# Altium schematic symbol library Schematic_IC.SchLib: 18 symbols
Pins are listed as number, name and electrical type; pins without a type are passive.

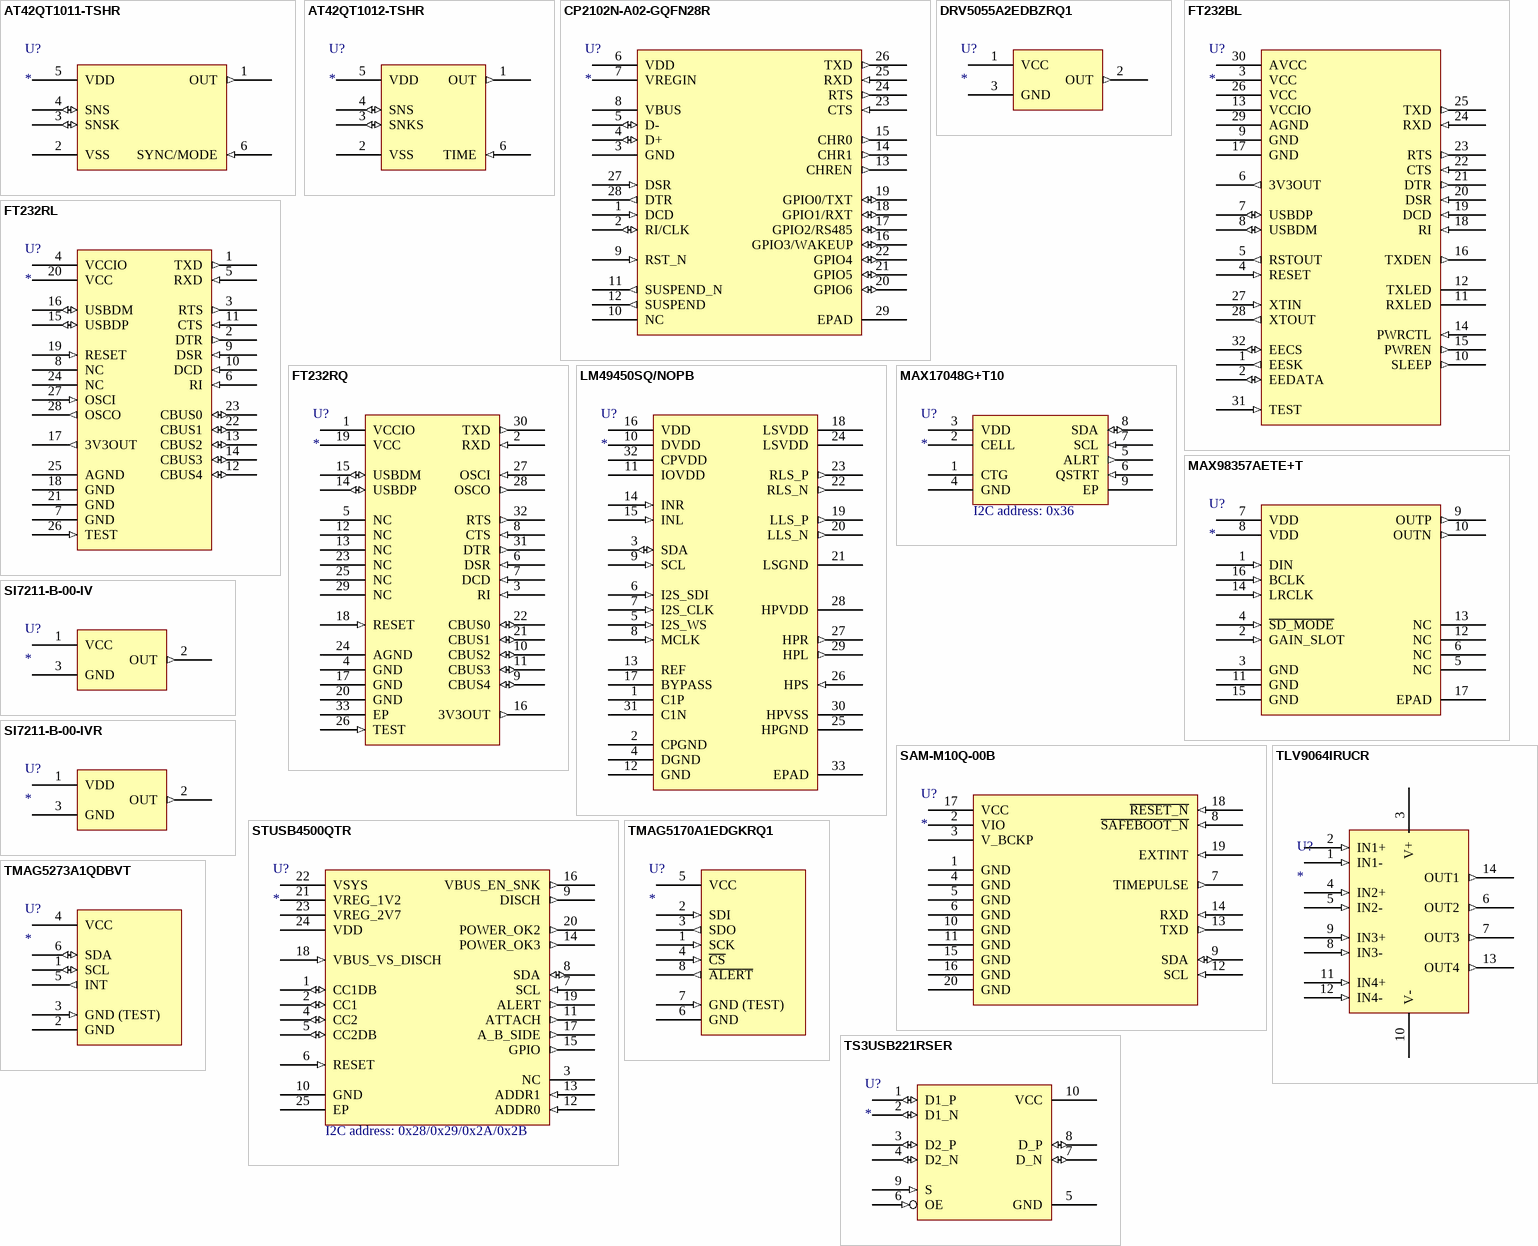
[diagram p0: symbols AT42QT1011-TSHR to TS3USB221RSER]

## AT42QT1011-TSHR
designator U?
Touch Sensor IC 6-Pin SOT-23, HOLD; Manufacturer: Microchip / Atmel; Manufacturer Part Number: AT42QT1011-TSHR; Min Supply Voltage: 1.8V; Max Supply Voltage: 5.5V; Load Capacitance: 50pF; Nominal Supply Current: 729uA; Number of Inputs: 1; Resolution: 14b; Operating Supply Current: 378.5uA; Touchscreen: Capacitive; Supplier 1: Digi-Key; RoHS: Yes; Category: Uncategorized; Pricing 1: 4500=0.48000 (USD); Mount: Surface Mount; Case/Package: SOT-23-6; Number of Pins: 6; Min Operating Temperature: -40°C; Max Operating Temperature: 85°C; Package Quantity: 4500; Packaging: Tape and Reel; Number of Channels: 1; Length: 3mm; Width: 1.75mm; Height: 1.3mm; REACH SVHC: No SVHC; Lead Free: Lead Free; ComponentLink1URL: https://datasheet.ciiva.com/14094/at42qt1011-eng-tds-14094872.pdf?src-supplier=Distrelec; ComponentLink1Description: https://datasheet.ciiva.com/14094/at42qt1011-eng-tds-14094872.pdf?src-supplier=Distrelec; ComponentLink2URL: https://datasheet.ciiva.com/1165/731627-1165685.pdf?src-supplier=Element14; ComponentLink2Description: https://datasheet.ciiva.com/1165/731627-1165685.pdf?src-supplier=Element14; ComponentLink3URL: https://datasheet.ciiva.com/1403/doc8287-1403456.pdf?src-supplier=Digi-Key; ComponentLink3Description: https://datasheet.ciiva.com/1403/doc8287-1403456.pdf?src-supplier=Digi-Key; ComponentLink4URL: https://datasheet.ciiva.com/1403/doc8287-1403458.pdf?src-supplier=Digi-Key; ComponentLink4Description: https://datasheet.ciiva.com/1403/doc8287-1403458.pdf?src-supplier=Digi-Key; ComponentLink5URL: https://datasheet.ciiva.com/15222/getdatasheetpartid-463081-15222284.pdf?src-supplier=Verical; ComponentLink5Description: https://datasheet.ciiva.com/15222/getdatasheetpartid-463081-15222284.pdf?src-supplier=Verical; ComponentLink6URL: https://datasheet.ciiva.com/1403/doc8287-1403457.pdf?src-supplier=Digi-Key; ComponentLink6Description: https://datasheet.ciiva.com/1403/doc8287-1403457.pdf?src-supplier=Digi-Key
footprint SOT95P280X145-6N (SOT23, 6-Leads, Body 2.90x2.80mm, Pitch 0.95mm, IPC Medium Density)
pins: 1 OUT (out), 2 VSS (power), 3 SNSK (io), 4 SNS (io), 5 VDD (power), 6 SYNC/MODE (in)

## AT42QT1012-TSHR
designator U?
Touch Sensor IC 6-Pin SOT-23, TOGGLE; Manufacturer: Microchip / Atmel; Manufacturer Part Number: AT42QT1012-TSHR; Interface: Serial; Resolution: 14b; Operating Supply Current: 59uA; Nominal Supply Current: 124uA; Min Supply Voltage: 1.8V; Max Supply Voltage: 5.5V; Load Capacitance: 20pF; Number of Inputs: 1; Touchscreen: Capacitive; Supplier 1: Digi-Key; RoHS: Yes; Category: Uncategorized; Stock 1: 7879; Pricing 1: 1=0.58000, 25=0.53000, 100=0.48000 (USD); Mount: Surface Mount; Case/Package: SOT-23-6; Number of Pins: 6; Contact Plating: Gold; Min Operating Temperature: -40°C; Max Operating Temperature: 85°C; Package Quantity: 4500; Packaging: Tape and Reel; Number of Channels: 1; Sensing Method: Capacitive; Length: 3mm; Width: 1.75mm; Height: 1.3mm; REACH SVHC: No SVHC; Lead Free: Lead Free; ComponentLink1URL: https://datasheet.ciiva.com/1165/1738894-1165686.pdf?src-supplier=Element14; ComponentLink1Description: https://datasheet.ciiva.com/1165/1738894-1165686.pdf?src-supplier=Element14; ComponentLink2URL: https://datasheet.ciiva.com/15098/getdatasheetpartid-503663-15098989.pdf?src-supplier=Verical; ComponentLink2Description: https://datasheet.ciiva.com/15098/getdatasheetpartid-503663-15098989.pdf?src-supplier=Verical; ComponentLink3URL: https://datasheet.ciiva.com/1403/doc8287-1403462.pdf?src-supplier=Digi-Key; ComponentLink3Description: https://datasheet.ciiva.com/1403/doc8287-1403462.pdf?src-supplier=Digi-Key; ComponentLink4URL: https://datasheet.ciiva.com/1403/doc8287-1403463.pdf?src-supplier=Digi-Key; ComponentLink4Description: https://datasheet.ciiva.com/1403/doc8287-1403463.pdf?src-supplier=Digi-Key; ComponentLink5URL: https://datasheet.ciiva.com/1403/doc8287-1403464.pdf?src-supplier=Digi-Key; ComponentLink5Description: https://datasheet.ciiva.com/1403/doc8287-1403464.pdf?src-supplier=Digi-Key
footprint SOT95P280X145-6N (SOT23, 6-Leads, Body 2.90x2.80mm, Pitch 0.95mm, IPC Medium Density)
pins: 1 OUT (out), 2 VSS (power), 3 SNKS (io), 4 SNS (io), 5 VDD (power), 6 TIME (in)

## CP2102N-A02-GQFN28R
designator U?
Full Speed USB to UART Bridge USB 2.0 3.3V T/R Automotive 28-Pin QFN EP; Manufacturer: Silicon Labs; Manufacturer Part Number: CP2102N-A02-GQFN28R; Supplier 1: Digi-Key; RoHS: Yes; Stock 1: 16070; Pricing 1: 1=1.47000 (USD); ComponentLink1URL: https://4donline.ihs.com/images/VipMasterIC/IC/SILC/SILC-S-A0007770867/SILC-S-A0007770867-1.pdf?hkey=6D3A4C79FDBF58556ACFDE234799DDF0&src-supplier=Farnell; ComponentLink1Description: https://4donline.ihs.com/images/VipMasterIC/IC/SILC/SILC-S-A0007770867/SILC-S-A0007770867-1.pdf?hkey=6D3A4C79FDBF58556ACFDE234799DDF0&src-supplier=Farnell
footprint QFN50P500X500X80_HS-29N (QFN, 28-Leads, Body 5.00x5.00mm, Pitch 0.50mm, Thermal Pad 3.35x3.35mm, IPC Medium Density)
pins: 1 DCD (in), 2 RI/CLK (io), 3 GND (power), 4 D+ (io), 5 D- (io), 6 VDD (power), 7 VREGIN (power), 8 VBUS (power), 9 RST_N (in), 10 NC, 11 SUSPEND_N (out), 12 SUSPEND (out), 13 CHREN (out), 14 CHR1 (out), 15 CHR0 (out), 16 GPIO3/WAKEUP (io), 17 GPIO2/RS485 (io), 18 GPIO1/RXT (io), 19 GPIO0/TXT (io), 20 GPIO6 (io), 21 GPIO5 (io), 22 GPIO4 (io), 23 CTS (in), 24 RTS (out), 25 RXD (in), 26 TXD (out), 27 DSR (in), 28 DTR (out), 29 EPAD (power)

## DRV5055A2EDBZRQ1
designator U?
Automotive, ratiometric linear hall effect sensor with analog output 3-SOT-23 -40 to 150; Manufacturer: Texas Instruments; Manufacturer Part Number: DRV5055A2EDBZRQ1; Supplier 1: Digi-Key; RoHS: Yes; Category: Integrated Circuits (ICs); Min Operating Temperature: -40°C; Max Operating Temperature: 150°C; RoHS Compliant: Yes; ComponentLink1URL: http://www.ti.com/general/docs/suppproductinfo.tsp?distId=10&amp;gotoUrl=http%3A%2F%2Fwww.ti.com%2Flit%2Fgpn%2Fdrv5055-q1&src-supplier=Digi-Key; ComponentLink1Description: http://www.ti.com/general/docs/suppproductinfo.tsp?distId=10&amp;gotoUrl=http%3A%2F%2Fwww.ti.com%2Flit%2Fgpn%2Fdrv5055-q1&src-supplier=Digi-Key
footprint SOT95P237X112-3N (SOT23, 3-Leads, Body 2.92x2.37mm, Pitch 0.95mm, IPC Medium Density)
footprint SOT95P237X112-3L (SOT23, 3-Leads, Body 2.92x2.37mm, Pitch 0.95mm, IPC High Density)
pins: 1 VCC (power), 2 OUT (out), 3 GND (power)

## FT232BL
designator U?
IC USB FS SERIAL UART 32-LQFP; Manufacturer: FTDI; Manufacturer Part Number: FT232BL-REEL; Number of Channels: 1; Data Rate: 12Mbps; Max Supply Voltage: 5.25V; Min Supply Voltage: 4.35V; Operating Supply Voltage: 5V; Operating Supply Current: 25mA; ESD Protection: Yes; Supplier 1: Digi-Key; Stock 1: 5329; Pricing 1: 1=5.75000, 10=4.95000, 50=4.60000, 100=4.25000, 250=3.95000, 500=3.70000 (USD); RoHS: Yes; Mount: Surface Mount; Case/Package: LQFP; Number of Pins: 32; Weight: 0.027302oz; Min Operating Temperature: 0°C; Max Operating Temperature: 70°C; Packaging: Tape and Reel; Package Quantity: 1000; Interface: UART; Number of Transceivers: 1; Termination: SMD/SMT; Length: 7mm; Height: 1.4mm; Width: 7mm; Radiation Hardening: No; Lead Free: Lead Free; ComponentLink1URL: https://datasheet.ciiva.com/4787/ds-ft232bl-180854-4787653.pdf?src-supplier=Mouser; ComponentLink1Description: https://datasheet.ciiva.com/4787/ds-ft232bl-180854-4787653.pdf?src-supplier=Mouser; ComponentLink2URL: https://datasheet.ciiva.com/26841/ft232bl-reel-26841084.pdf?src-supplier=IIIC; ComponentLink2Description: https://datasheet.ciiva.com/26841/ft232bl-reel-26841084.pdf?src-supplier=IIIC; ComponentLink3URL: https://datasheet.ciiva.com/1787/ds-ft232bl-bq-1787059.pdf?src-supplier=Digi-Key; ComponentLink3Description: https://datasheet.ciiva.com/1787/ds-ft232bl-bq-1787059.pdf?src-supplier=Digi-Key; ComponentLink4URL: https://datasheet.ciiva.com/1787/ds-ft232bl-bq-1787060.pdf?src-supplier=Digi-Key; ComponentLink4Description: https://datasheet.ciiva.com/1787/ds-ft232bl-bq-1787060.pdf?src-supplier=Digi-Key; ComponentLink5URL: https://datasheet.ciiva.com/1787/ds-ft232bl-bq-1787061.pdf?src-supplier=Digi-Key; ComponentLink5Description: https://datasheet.ciiva.com/1787/ds-ft232bl-bq-1787061.pdf?src-supplier=Digi-Key; ComponentLink6URL: https://datasheet.ciiva.com/15150/getdatasheetpartid-655131-15150519.pdf?src-supplier=Verical; ComponentLink6Description: https://datasheet.ciiva.com/15150/getdatasheetpartid-655131-15150519.pdf?src-supplier=Verical; ComponentLink7URL: https://datasheet.ciiva.com/16882/70069387-16882364.pdf?src-supplier=Allied+Electronics; ComponentLink7Description: https://datasheet.ciiva.com/16882/70069387-16882364.pdf?src-supplier=Allied+Electronics; ComponentLink8URL: https://datasheet.ciiva.com/16200/ds-ft232bl-bq-16200973.pdf?src-supplier=Future+Electronics; ComponentLink8Description: https://datasheet.ciiva.com/16200/ds-ft232bl-bq-16200973.pdf?src-supplier=Future+Electronics
footprint TQFP80P900X900X160-32N (TQFP, 32-Leads, Body 7.00x7.00mm, Pitch 0.80mm, IPC Medium Density)
pins: 1 EESK (out), 2 EEDATA (io), 3 VCC (power), 4 RESET (in), 5 RSTOUT (out), 6 3V3OUT (out), 7 USBDP (io), 8 USBDM (io), 9 GND (power), 10 SLEEP (out), 11 RXLED (oc), 12 TXLED (oc), 13 VCCIO (power), 14 PWRCTL (in), 15 PWREN (out), 16 TXDEN (out), 17 GND (power), 18 RI (in), 19 DCD (in), 20 DSR (in), 21 DTR (out), 22 CTS (in), 23 RTS (out), 24 RXD (in), 25 TXD (out), 26 VCC (power), 27 XTIN (in), 28 XTOUT (out), 29 AGND (power), 30 AVCC (power), 31 TEST (in), 32 EECS (io)

## FT232RL
designator U?
IC USB FS SERIAL UART 28-SSOP; Manufacturer: FTDI; Manufacturer Part Number: FT232RL-REEL; Interface: UART,RS-232,RS-422,RS-485; Number of Channels: 1; Data Rate: 12Mbps; Max Supply Voltage: 5.25V; Min Supply Voltage: 3.3V; Operating Supply Current: 15mA; Voltage: 5V; Supplier 1: Digi-Key; Stock 1: 32837; Pricing 1: 1=4.50000, 10=4.05000, 50=3.85000, 100=3.65000, 250=3.25000, 500=2.85002, 1000=2.65000 (USD); RoHS: Yes; Mount: Surface Mount; Case/Package: SSOP; Number of Pins: 28; Weight: 0.080001oz; Min Operating Temperature: -40°C; Max Operating Temperature: 85°C; Package Quantity: 2000; Packaging: Tape and Reel; Number of Transceivers: 1; Length: 10.2mm; Height: 1.75mm; Width: 5.3mm; Radiation Hardening: No; REACH SVHC: No SVHC; Lead Free: Lead Free; ComponentLink1URL: https://datasheet.ciiva.com/34304/2161019-34304054.pdf?src-supplier=Jameco; ComponentLink1Description: https://datasheet.ciiva.com/34304/2161019-34304054.pdf?src-supplier=Jameco; ComponentLink2URL: https://datasheet.ciiva.com/4787/ds-ft232r-11534-4787658.pdf?src-supplier=Mouser; ComponentLink2Description: https://datasheet.ciiva.com/4787/ds-ft232r-11534-4787658.pdf?src-supplier=Mouser; ComponentLink3URL: https://datasheet.ciiva.com/26841/ft232rl-reel-26841080.pdf?src-supplier=IIIC; ComponentLink3Description: https://datasheet.ciiva.com/26841/ft232rl-reel-26841080.pdf?src-supplier=IIIC; ComponentLink4URL: https://datasheet.ciiva.com/1787/ds-ft232r-1787047.pdf?src-supplier=Digi-Key; ComponentLink4Description: https://datasheet.ciiva.com/1787/ds-ft232r-1787047.pdf?src-supplier=Digi-Key; ComponentLink5URL: https://datasheet.ciiva.com/1787/ds-ft232r-1787048.pdf?src-supplier=Digi-Key; ComponentLink5Description: https://datasheet.ciiva.com/1787/ds-ft232r-1787048.pdf?src-supplier=Digi-Key; ComponentLink6URL: https://datasheet.ciiva.com/1787/ds-ft232r-1787049.pdf?src-supplier=Digi-Key; ComponentLink6Description: https://datasheet.ciiva.com/1787/ds-ft232r-1787049.pdf?src-supplier=Digi-Key; ComponentLink7URL: https://datasheet.ciiva.com/15150/getdatasheetpartid-643207-15150506.pdf?src-supplier=Verical; ComponentLink7Description: https://datasheet.ciiva.com/15150/getdatasheetpartid-643207-15150506.pdf?src-supplier=Verical; ComponentLink8URL: https://datasheet.ciiva.com/16200/ds-ft232r-16200652.pdf?src-supplier=Future+Electronics; ComponentLink8Description: https://datasheet.ciiva.com/16200/ds-ft232r-16200652.pdf?src-supplier=Future+Electronics
footprint SOP65P780X200-28N (SOP, 28-Leads, Body 10.28x5.30mm, Pitch 0.65mm, IPC Medium Density)
pins: 1 TXD (out), 2 DTR (out), 3 RTS (out), 4 VCCIO (power), 5 RXD (in), 6 RI (in), 7 GND (power), 8 NC, 9 DSR (in), 10 DCD (in), 11 CTS (in), 12 CBUS4 (io), 13 CBUS2 (io), 14 CBUS3 (io), 15 USBDP (io), 16 USBDM (io), 17 3V3OUT (out), 18 GND (power), 19 RESET (in), 20 VCC (power), 21 GND (power), 22 CBUS1 (io), 23 CBUS0 (io), 24 NC, 25 AGND (power), 26 TEST (in), 27 OSCI (in), 28 OSCO (out)

## FT232RQ
designator U?
IC USB FS SERIAL UART 32-QFN; Manufacturer: FTDI; Manufacturer Part Number: FT232RQ-REEL; Number of Channels: 1; Operating Supply Voltage: 5V; Max Supply Voltage: 5.25V; Min Supply Voltage: 3.3V; Data Rate: 12Mbps; Operating Supply Current: 15mA; Supplier 1: Digi-Key; RoHS: Yes; Category: Interface ICs; Stock 1: 20411; Pricing 1: 1=4.50000, 10=4.05000, 50=3.85000, 100=3.65000, 250=3.25000, 500=2.85002, 1000=2.65000, 2500=2.35001 (USD); Mount: Surface Mount; Case/Package: QFN EP; Number of Pins: 32; Weight: 0.006653oz; Min Operating Temperature: -40°C; Max Operating Temperature: 85°C; Packaging: Tape and Reel; Interface: UART; Package Quantity: 6000; Length: 5mm; Width: 5mm; Radiation Hardening: No; Lead Free: Lead Free; ComponentLink1URL: https://datasheet.ciiva.com/1505/1647396-1505445.pdf?src-supplier=Digi-Key; ComponentLink1Description: https://datasheet.ciiva.com/1505/1647396-1505445.pdf?src-supplier=Digi-Key; ComponentLink2URL: https://datasheet.ciiva.com/26841/ft232rq-reel-26841082.pdf?src-supplier=IIIC; ComponentLink2Description: https://datasheet.ciiva.com/26841/ft232rq-reel-26841082.pdf?src-supplier=IIIC; ComponentLink3URL: https://datasheet.ciiva.com/1787/ds-ft232r-1787041.pdf?src-supplier=Digi-Key; ComponentLink3Description: https://datasheet.ciiva.com/1787/ds-ft232r-1787041.pdf?src-supplier=Digi-Key; ComponentLink4URL: https://datasheet.ciiva.com/1787/ds-ft232r-1787042.pdf?src-supplier=Digi-Key; ComponentLink4Description: https://datasheet.ciiva.com/1787/ds-ft232r-1787042.pdf?src-supplier=Digi-Key; ComponentLink5URL: https://datasheet.ciiva.com/16438/ds-ft232r-16438555.pdf?src-supplier=Future+Electronics; ComponentLink5Description: https://datasheet.ciiva.com/16438/ds-ft232r-16438555.pdf?src-supplier=Future+Electronics; ComponentLink6URL: https://datasheet.ciiva.com/15150/getdatasheetpartid-644721-15150509.pdf?src-supplier=Verical; ComponentLink6Description: https://datasheet.ciiva.com/15150/getdatasheetpartid-644721-15150509.pdf?src-supplier=Verical; ComponentLink7URL: https://datasheet.ciiva.com/4787/ds-ft232r-4787663.pdf?src-supplier=Mouser; ComponentLink7Description: https://datasheet.ciiva.com/4787/ds-ft232r-4787663.pdf?src-supplier=Mouser
footprint QFN50P500X500X90_HS-33N (QFN, 32-Leads, Body 5.00x5.00mm, Pitch 0.50mm, Thermal Pad 3.30x3.30mm, IPC Medium Density)
pins: 1 VCCIO (power), 2 RXD (in), 3 RI (in), 4 GND (power), 5 NC, 6 DSR (in), 7 DCD (in), 8 CTS (in), 9 CBUS4 (io), 10 CBUS2 (io), 11 CBUS3 (io), 12 NC, 13 NC, 14 USBDP (io), 15 USBDM (io), 16 3V3OUT (out), 17 GND (power), 18 RESET (in), 19 VCC (power), 20 GND (power), 21 CBUS1 (io), 22 CBUS0 (io), 23 NC, 24 AGND (power), 25 NC, 26 TEST (in), 27 OSCI (in), 28 OSCO (out), 29 NC, 30 TXD (out), 31 DTR (out), 32 RTS (out), 33 EP

## LM49450SQ/NOPB
designator U?
IC, AUDIO SUBSYSTEM D 32-LLP; Manufacturer: TI National Semiconductor; Manufacturer Part Number: LM49450SQ/NOPB; Power Supply Rejection Ratio (PSRR): 70dB; Number of Channels: 2; Max Output Power: 2.5W; Nominal Supply Current: 18mA; Voltage Gain: 53.8dB; Supply Type: Hex; Power Consumption: 57.6mW; Dual Supply Voltage: 5V; Max Supply Voltage: 5.5V; Min Supply Voltage: 1.8V; Number of Analog Outputs: 4; Load Impedance: 8R; Supplier 1: Digi-Key; RoHS: Yes; Category: Amplifiers - Audio; Stock 1: 899; Pricing 1: 1=5.36000, 10=4.81700, 25=4.55400, 100=3.74440, 250=3.35984, 500=3.23840 (USD); Mount: Surface Mount; Number of Pins: 32; Contact Plating: Tin; Min Operating Temperature: -40°C; Max Operating Temperature: 85°C; Packaging: Tape and Reel; Package Quantity: 1000; Output Power: 2.5W; Number of Analog Inputs: 2; Number of DAC Channels: 2; Features: I²C; Termination: SMD/SMT; Length: 5mm; Height: 0.8mm; Width: 5mm; Radiation Hardening: No; Lead Free: Lead Free; REACH SVHC: No SVHC; ComponentLink1URL: https://datasheet.ciiva.com/1482/90149-1482432.pdf?src-supplier=Element14; ComponentLink1Description: https://datasheet.ciiva.com/1482/90149-1482432.pdf?src-supplier=Element14; ComponentLink2URL: https://datasheet.ciiva.com/1489/1777553-1489572.pdf?src-supplier=Farnell; ComponentLink2Description: https://datasheet.ciiva.com/1489/1777553-1489572.pdf?src-supplier=Farnell; ComponentLink3URL: https://datasheet.ciiva.com/6631/lm49450-6631304.pdf?src-supplier=Digi-Key; ComponentLink3Description: https://datasheet.ciiva.com/6631/lm49450-6631304.pdf?src-supplier=Digi-Key; ComponentLink4URL: https://datasheet.ciiva.com/6631/lm49450-6631306.pdf?src-supplier=Digi-Key; ComponentLink4Description: https://datasheet.ciiva.com/6631/lm49450-6631306.pdf?src-supplier=Digi-Key; ComponentLink5URL: https://datasheet.ciiva.com/6631/lm49450-6631308.pdf?src-supplier=Digi-Key; ComponentLink5Description: https://datasheet.ciiva.com/6631/lm49450-6631308.pdf?src-supplier=Digi-Key
footprint QFN50P500X500X80_HS-33N (QFN, 32-Leads, Body 5.00x5.00mm, Pitch 0.50mm, Thermal Pad 3.10x3.10mm, IPC Medium Density)
pins: 1 C1P (power), 2 CPGND (power), 3 SDA (io), 4 DGND (power), 5 I2S_WS (in), 6 I2S_SDI (in), 7 I2S_CLK (in), 8 MCLK (in), 9 SCL (in), 10 DVDD (power), 11 IOVDD (power), 12 GND (power), 13 REF (power), 14 INR (in), 15 INL (in), 16 VDD (power), 17 BYPASS (power), 18 LSVDD (power), 19 LLS_P (out), 20 LLS_N (out), 21 LSGND (power), 22 RLS_N (out), 23 RLS_P (out), 24 LSVDD (power), 25 HPGND (power), 26 HPS (in), 27 HPR (out), 28 HPVDD (power), 29 HPL (out), 30 HPVSS (power), 31 C1N (power), 32 CPVDD (power), 33 EPAD

## MAX17048G+T10
designator U?
IC FUEL GAUGE LI-ION 1CELL 8TDFN; Manufacturer: Maxim; Manufacturer Part Number: MAX17048G+T10; Operating Supply Current: 23uA; Output Voltage: 400mV; Operating Supply Voltage: 4.5V; Supplier 1: Digi-Key; RoHS: Yes; Category: Battery Management; Stock 1: 3057; Pricing 1: 1=2.14000, 10=1.92300, 25=1.81800, 100=1.49480, 250=1.34128, 500=1.31300 (USD); Mount: Surface Mount; Number of Pins: 8; Contact Plating: Tin,Matte; Min Operating Temperature: -20°C; Max Operating Temperature: 85°C; Packaging: Tape and Reel; Package Quantity: 10000; Radiation Hardening: No; ComponentLink1URL: https://datasheet.ciiva.com/14083/max17048-max17049-14083973.pdf?src-supplier=Digi-Key; ComponentLink1Description: https://datasheet.ciiva.com/14083/max17048-max17049-14083973.pdf?src-supplier=Digi-Key
footprint SON50P200X80_HS-9N (SON, 8-Leads, Body 2.00x2.00mm, Pitch 0.50mm, Thermal Pad 1.20x0.69mm, IPC Medium Density)
pins: 1 CTG (power), 2 CELL (power), 3 VDD (power), 4 GND (power), 5 ALRT (out), 6 QSTRT (in), 7 SCL (in), 8 SDA (io), 9 EP
text: I2C address: 0x36

## MAX98357AETE+T
designator U?
MAX98357A Series 5.5 V 3.2 W PCM Input Class D Audio Power Amplifier - TQFN-16; Manufacturer: Analog Devices; Manufacturer Part Number: MAX98357AETE+T; Manufacturer Lifecycle Status: PRODUCTION; Max Junction Temperature (Tj): 150°C; Max Output current: 1.6A; Max Output Power: 3.2W; Max Power Dissipation: 1.666W; Max Supply Voltage: 5.5V; Min Supply Voltage: 2.5V; Number of Channels: 1; Power Supply Rejection Ratio (PSRR): 77dB; Voltage Gain: 15dB; Supplier: DigiKey; Supplier Part Number: MAX98357AETE+TDKR-ND; RoHS: Compliant; Category: Amplifiers - Audio; Stock: 50814; Pricing: 1=3.19, 10=2.392, 25=2.1924, 100=1.9732, 250=1.86872, 500=1.80568, 1000=1.75383 (USD); Contact Plating: Tin; Height: 800µm; Lifecycle Status: Production; Max Operating Temperature: 85°C; Min Operating Temperature: -40°C; Mounting Technology: Surface Mount; Pins: 16; Output Power: 3.2W; Packaging: Tape & Reel; Radiation Hardening: No; Schedule B: 8542330000|8542330000|8542330000|8542330000|8542330000|8542330000|8542330000|8542330000|8542330000|8542330000|8542330000|8542330000|8542330000|8542330000|8542330000|8542330000|8542330000|8542330000|8542330000|8542330000|8542330000|8542330000|8542330000|85; ComponentLink1URL: https://octopart.com:443/opatz8j6/c1?t=iHWFSwgsbvPZdLRzl9PHWHhsKpIl1N0k0QRhCiyNfdTaaUDJFoT9uTY7gqqSdOmo2FQwq1YncWvCTat5aisRTL5u8AMqfm1dMARAflNKk6Eo-mE-KcWHVnNWol2mb3c6IilpTFpDUb2rpuX5SaztYeqakQV5P-yVN1KgHw85YGuMQIO7mNbYHjWoOO44GOOO8McrzYTCm6jxvnuVzdO4F3rxfU1jWxDn81_PXT4w94YCaQgI66BGxRMqW9AyEo3OzNFfRyEC_qMtBPIpaXp-VJABopYLKlBOylmUy3AFuuyrThXPhYjnfE6VQQ&src-supplier=Analog+Devices; ComponentLink1Description: https://octopart.com:443/opatz8j6/c1?t=iHWFSwgsbvPZdLRzl9PHWHhsKpIl1N0k0QRhCiyNfdTaaUDJFoT9uTY7gqqSdOmo2FQwq1YncWvCTat5aisRTL5u8AMqfm1dMARAflNKk6Eo-mE-KcWHVnNWol2mb3c6IilpTFpDUb2rpuX5SaztYeqakQV5P-yVN1KgHw85YGuMQIO7mNbYHjWoOO44GOOO8McrzYTCm6jxvnuVzdO4F3rxfU1jWxDn81_PXT4w94YCaQgI66BGxRMqW9AyEo3OzNFfRyEC_qMtBPIpaXp-VJABopYLKlBOylmUy3AFuuyrThXPhYjnfE6VQQ&src-supplier=Analog+Devices; ComponentLink2URL: https://datasheet.octopart.com:443/MAX98357AETE%2BT-Analog-Devices-datasheet-140103828.pdf?src-supplier=Upverter; ComponentLink2Description: https://datasheet.octopart.com:443/MAX98357AETE%2BT-Analog-Devices-datasheet-140103828.pdf?src-supplier=Upverter; ComponentLink3URL: https://datasheet.octopart.com:443/MAX98357AETE%2BT-Maxim-Integrated-datasheet-82537686.pdf?src-supplier=Upverter; ComponentLink3Description: https://datasheet.octopart.com:443/MAX98357AETE%2BT-Maxim-Integrated-datasheet-82537686.pdf?src-supplier=Upverter; ComponentLink4URL: https://sigma.octopart.com:443/141243535/technical_drawing/Maxim-Integrated-MAX98357AETE%2BT.pdf?src-supplier=Upverter; ComponentLink4Description: https://sigma.octopart.com:443/141243535/technical_drawing/Maxim-Integrated-MAX98357AETE%2BT.pdf?src-supplier=Upverter; ComponentLink5URL: https://datasheet.octopart.com:443/MAX98357AETE%2BT-Maxim-Integrated-datasheet-134531866.pdf?src-supplier=Augswan; ComponentLink5Description: https://datasheet.octopart.com:443/MAX98357AETE%2BT-Maxim-Integrated-datasheet-134531866.pdf?src-supplier=Augswan; ComponentLink6URL: https://sigma.octopart.com:443/140082349/technical_drawing/Maxim-Integrated-MAX98357AETE%2BT.pdf?src-supplier=ShanghaiCT; ComponentLink6Description: https://sigma.octopart.com:443/140082349/technical_drawing/Maxim-Integrated-MAX98357AETE%2BT.pdf?src-supplier=ShanghaiCT; ComponentLink7URL: https://datasheet.octopart.com/MAX98357AETE%2BT-Maxim-Integrated-datasheet-38886134.pdf; ComponentLink7Description: https://datasheet.octopart.com/MAX98357AETE%2BT-Maxim-Integrated-datasheet-38886134.pdf; ComponentLink8URL: https://datasheet.octopart.com:443/MAX98357AETE%2BT-Maxim-Integrated-datasheet-8516998.pdf?src-supplier=Future+Electronics; ComponentLink8Description: https://datasheet.octopart.com:443/MAX98357AETE%2BT-Maxim-Integrated-datasheet-8516998.pdf?src-supplier=Future+Electronics; ComponentLink9URL: http://sigma.octopart.com:80/conflict_mineral_statement/Analog-Devices-company-33.pdf?src-supplier=Compliance+Statements; ComponentLink9Description: http://sigma.octopart.com:80/conflict_mineral_statement/Analog-Devices-company-33.pdf?src-supplier=Compliance+Statements; ComponentLink10URL: http://sigma.octopart.com:80/reach_statement/Maxim-Integrated-company-67.pdf?src-supplier=Compliance+Statements; ComponentLink10Description: http://sigma.octopart.com:80/reach_statement/Maxim-Integrated-company-67.pdf?src-supplier=Compliance+Statements; ComponentLink11URL: http://sigma.octopart.com:80/rohs_statement/Maxim-Integrated-company-66.pdf?src-supplier=Compliance+Statements; ComponentLink11Description: http://sigma.octopart.com:80/rohs_statement/Maxim-Integrated-company-66.pdf?src-supplier=Compliance+Statements; ComponentLink12URL: http://sigma.octopart.com:80/conflict_mineral_statement/Maxim-Integrated-company-65.pdf?src-supplier=Compliance+Statements; ComponentLink12Description: http://sigma.octopart.com:80/conflict_mineral_statement/Maxim-Integrated-company-65.pdf?src-supplier=Compliance+Statements; ComponentLink13URL: https://octopart.com:443/opatz8j6/c1?t=51X2AU-0rNs9jYVv-TjBsyh9zjVcDC2K90Rs_pmSLczBD9yewHg9SYBJz4e9e6pWQAM1qtB1ajPKrwXgPa9nL_UllVeIEzYWwT58sm4slWtRfYQ3GYepyqC6LBwEWrlpjIBBepQhG1Sv5jMkfxzdysUcXVkRXlXTYYiPtfXHhMjeLVVyD7Z8EgN15rTzXsv0VmGg9zs9dxzEC9ZxkMRgFrQQ8M0wBwwP5pDLC3cuER5OcIR5cfpnlg3-GJ7YNeORKn0DWcJReuZEmUcBLZYbOZksxszKb9_rh6Ol4gPA217OU09H-HSQc4rn8w&src-supplier=Compliance+Statements; ComponentLink13Description: https://octopart.com:443/opatz8j6/c1?t=51X2AU-0rNs9jYVv-TjBsyh9zjVcDC2K90Rs_pmSLczBD9yewHg9SYBJz4e9e6pWQAM1qtB1ajPKrwXgPa9nL_UllVeIEzYWwT58sm4slWtRfYQ3GYepyqC6LBwEWrlpjIBBepQhG1Sv5jMkfxzdysUcXVkRXlXTYYiPtfXHhMjeLVVyD7Z8EgN15rTzXsv0VmGg9zs9dxzEC9ZxkMRgFrQQ8M0wBwwP5pDLC3cuER5OcIR5cfpnlg3-GJ7YNeORKn0DWcJReuZEmUcBLZYbOZksxszKb9_rh6Ol4gPA217OU09H-HSQc4rn8w&src-supplier=Compliance+Statements
footprint QFN50P300X300X80_HS-17N (QFN, 16-Leads, Body 3.00x3.00mm, Pitch 0.50mm, Thermal Pad 1.23x1.23mm, IPC Medium Density)
pins: 1 DIN (in), 2 GAIN_SLOT (in), 3 GND (power), 4 ~{SD_MODE} (in), 5 NC, 6 NC, 7 VDD (power), 8 VDD (power), 9 OUTP (out), 10 OUTN (out), 11 GND (power), 12 NC, 13 NC, 14 LRCLK (in), 15 GND (power), 16 BCLK (in), 17 EPAD

## SAM-M10Q-00B
designator U?
u-blox M10 GNSS antenna module ROM, TCXO, SAW, LNA LGA, 16x16 mm, 250 pcs/reel; Manufacturer Part Number: SAM-M10Q-00B; Interface: I2C,UART; Bandwidth: 26.58MHz; Data Rate: 400Kbps; Clock Frequency: 1.602GHz; Max Supply Voltage: 3.6V; Min Supply Voltage: 2.7V; Supplier 1: Digikey; Manufacturer: u-blox; RoHS: No; Category: Uncategorized; Stock 1: 3137; Pricing 1: 1=31.5, 10=22.45, 50=18.41, 100=16.506, 250=14.73752 (USD); Min Operating Temperature: -40°C; Max Operating Temperature: 85°C; Height: 6.8mm; ComponentLink1URL: https://datasheet.octopart.com/SAM-M10Q-00B-u-blox-datasheet-165804992.pdf?src-supplier=TME; ComponentLink1Description: https://datasheet.octopart.com/SAM-M10Q-00B-u-blox-datasheet-165804992.pdf?src-supplier=TME
footprint SAM-M10Q-00B
pins: 1 GND (power), 2 VIO (power), 3 V_BCKP (power), 4 GND (power), 5 GND (power), 6 GND (power), 7 TIMEPULSE (out), 8 ~{SAFEBOOT_N} (in), 9 SDA (io), 10 GND (power), 11 GND (power), 12 SCL (in), 13 TXD (out), 14 RXD (in), 15 GND (power), 16 GND (power), 17 VCC (power), 18 ~{RESET_N} (in), 19 EXTINT (in), 20 GND (power)

## SI7211-B-00-IV
designator U?
Si7211 Series Field Output Hall Effect Magnetic Position Sensor 3-Pin SOT-23 Cut Tape; Manufacturer: Silicon Labs; Manufacturer Part Number: SI7211-B-00-IV; Max Supply Current: 5.5mA; Output Type: Analog Voltage; Bandwidth: 7kHz; Supplier 1: Digi-Key; RoHS: Yes; Category: Sensors; Stock 1: 2076; Pricing 1: 1=1.98, 10=1.527, 25=1.2728, 50=1.2444, 100=1.1312, 500=0.9898, 1000=0.87668, 5000=0.82012 (USD); Mounting Technology: Surface Mount; Case/Package: SOT-23-3; Min Operating Temperature: -40°C; Max Operating Temperature: 125°C; Series: -; Packaging: Strip; RoHS Compliant: Yes; ComponentLink1URL: http://www.farnell.com/datasheets/2337709.pdf?src-supplier=Farnell; ComponentLink1Description: http://www.farnell.com/datasheets/2337709.pdf?src-supplier=Farnell; ComponentLink2URL: https://www.silabs.com/documents/public/data-sheets/si721x-datasheet.pdf?src-supplier=Digi-Key; ComponentLink2Description: https://www.silabs.com/documents/public/data-sheets/si721x-datasheet.pdf?src-supplier=Digi-Key
footprint SOT95P275X125-3N (SOT23, 3-Leads, Body 2.90x2.75mm, Pitch 0.95mm, IPC Medium Density)
pins: 1 VCC (power), 2 OUT (out), 3 GND (power)

## SI7211-B-00-IVR
designator U?
Si7211 Series Field Output Hall Effect Magnetic Position Sensor 3-Pin SOT-23 T/R; Manufacturer: Silicon Labs; Manufacturer Part Number: SI7211-B-00-IVR; Max Supply Current: 5.5mA; Output Type: Analog Voltage; Bandwidth: 7kHz; Supplier 1: Digikey; RoHS: Yes; Category: Sensors; Stock 1: 41824; Pricing 1: 1=1.98, 10=1.527, 25=1.2728, 50=1.2444, 100=1.1312, 500=0.9898, 1000=0.87668 (USD); Mounting Technology: Surface Mount; Case/Package: SOT-23-3; Min Operating Temperature: -40°C; Max Operating Temperature: 125°C; Series: -; Packaging: Cut Tape; RoHS Compliant: Yes; ComponentLink1URL: https://www.silabs.com/documents/public/data-sheets/si721x-datasheet.pdf?src-supplier=Digikey; ComponentLink1Description: https://www.silabs.com/documents/public/data-sheets/si721x-datasheet.pdf?src-supplier=Digikey
footprint SOT95P275X125-3N (SOT23, 3-Leads, Body 2.90x2.75mm, Pitch 0.95mm, IPC Medium Density)
pins: 1 VDD (power), 2 OUT (out), 3 GND (power)

## STUSB4500QTR
designator U?
STAND-ALONE USB PD CONTROLLER (; Manufacturer: STMicroelectronics; Manufacturer Part Number: STUSB4500QTR; Interface: I2C; Supplier 1: Mouser; RoHS: No; Stock 1: 6187; Pricing 1: 1=2.11000, 10=1.79000, 100=1.43000, 500=1.25000, 1000=1.04000, 4000=0.93500, 8000=0.89900, 24000=0.86400 (USD); Case/Package: QFN; Min Operating Temperature: -40°C; Max Operating Temperature: 105°C; Packaging: Tape and Reel; ComponentLink1URL: http://www.farnell.com/datasheets/2710898.pdf?src-supplier=Farnell; ComponentLink1Description: http://www.farnell.com/datasheets/2710898.pdf?src-supplier=Farnell; ComponentLink2URL: http://www.farnell.com/datasheets/2710898.pdf?src-supplier=Newark; ComponentLink2Description: http://www.farnell.com/datasheets/2710898.pdf?src-supplier=Newark; ComponentLink3URL: http://www.st.com/content/ccc/resource/technical/document/datasheet/group3/1c/4a/55/d7/17/01/44/86/DM00489312/files/DM00489312.pdf/jcr:content/translations/en.DM00489312.pdf?src-supplier=Digi-Key; ComponentLink3Description: http://www.st.com/content/ccc/resource/technical/document/datasheet/group3/1c/4a/55/d7/17/01/44/86/DM00489312/files/DM00489312.pdf/jcr:content/translations/en.DM00489312.pdf?src-supplier=Digi-Key; ComponentLink4URL: http://www.farnell.com/datasheets/2710898.pdf?src-supplier=Element14; ComponentLink4Description: http://www.farnell.com/datasheets/2710898.pdf?src-supplier=Element14
footprint QFN50P400X400X100_HS-25N (QFN, 24-Leads, Body 4.00x4.00mm, Pitch 0.50mm, Thermal Pad 2.70x2.70mm, IPC Medium Density)
pins: 1 CC1DB (io), 2 CC1 (io), 3 NC, 4 CC2 (io), 5 CC2DB (io), 6 RESET (in), 7 SCL (in), 8 SDA (io), 9 DISCH (out), 10 GND (power), 11 ATTACH (out), 12 ADDR0 (in), 13 ADDR1 (in), 14 POWER_OK3 (out), 15 GPIO (out), 16 VBUS_EN_SNK (out), 17 A_B_SIDE (out), 18 VBUS_VS_DISCH (in), 19 ALERT (out), 20 POWER_OK2 (out), 21 VREG_1V2 (power), 22 VSYS (power), 23 VREG_2V7 (power), 24 VDD (power), 25 EP
text: I2C address: 0x28/0x29/0x2A/0x2B

## TLV9064IRUCR
designator U?
4-Channel, 10-MHz, low-noise, RRIO, CMOS op amp for cost-sensitive systems 14-QFN -40 to 125; Manufacturer: Texas Instruments; Manufacturer Part Number: TLV9064IRUCR; Number of Channels: 4; Max Supply Voltage: 5.5V; Gain Bandwidth Product: 10MHz; Output Current per Channel: 50mA; Slew Rate: 6.5V/µs; Input Offset Voltage (Vos): 300uV; Min Supply Voltage: 1.8V; Input Bias Current: 0.5pA; Operating Supply Current: 538uA; Common Mode Rejection Ratio: 103dB; Input Voltage Noise Density: 10nV/sqrt Hz; Supplier 1: Digikey; RoHS: Yes; Category: Amplifiers - Op Amps, Buffer, Instrumentation; Stock 1: 39844; Pricing 1: 1=1.09, 10=0.971, 25=0.922, 100=0.7573, 250=0.70792, 500=0.6256, 1000=0.49389 (USD); Case/Package: QFN; Weight: 5.3mg; Min Operating Temperature: -40°C; Max Operating Temperature: 125°C; Series: TLV9064; Packaging: Cut Tape; Package Quantity: 3000; ComponentLink1URL: http://www.ti.com/general/docs/suppproductinfo.tsp?distId=10&amp;gotoUrl=http%3A%2F%2Fwww.ti.com%2Flit%2Fgpn%2Ftlv9064&src-supplier=Digikey; ComponentLink1Description: http://www.ti.com/general/docs/suppproductinfo.tsp?distId=10&amp;gotoUrl=http%3A%2F%2Fwww.ti.com%2Flit%2Fgpn%2Ftlv9064&src-supplier=Digikey
footprint QFN40P200X200X40-14N (QFN, 14-Leads, Body 2.00x2.00mm, Pitch 0.40mm, IPC Medium Density)
pins: 1 IN1- (in), 2 IN1+ (in), 3 V+ (power), 4 IN2+ (in), 5 IN2- (in), 6 OUT2 (out), 7 OUT3 (out), 8 IN3- (in), 9 IN3+ (in), 10 V- (power), 11 IN4+ (in), 12 IN4- (in), 13 OUT4 (out), 14 OUT1 (out)

## TMAG5170A1EDGKRQ1
designator U?
Automotive, high-precision, linear 3D Hall-effect sensor with SPI bus interface 8-VSSOP -40 to 150; Manufacturer: Texas Instruments; Manufacturer Part Number: TMAG5170A1EDGKRQ1; Supplier 1: Digi-Key; RoHS: No; Category: Integrated Circuits (ICs); Stock 1: 2489; Pricing 1: 1=3.55, 10=3.186, 25=3.0116, 100=2.61, 250=2.4762, 500=2.22188, 1000=1.87387 (USD)
footprint SOP127P600-8N
pins: 1 SCK (in), 2 SDI (in), 3 SDO (out), 4 ~{CS} (in), 5 VCC (power), 6 GND (power), 7 GND (TEST) (in), 8 ~{ALERT} (out)

## TMAG5273A1QDBVT
designator U?
Low-power linear 3D Hall-effect sensor with I²C interface 6-SOT-23 -40 to 125; Manufacturer: Texas Instruments; Manufacturer Part Number: TMAG5273A1QDBVT; Supplier 1: Digi-Key; RoHS: No; Category: Integrated Circuits (ICs); Stock 1: 619; Pricing 1: 1=1.89, 10=1.418, 25=1.1344, 100=1.0399 (USD)
footprint SOT95P280X125-6N (SOT23, 6-Leads, Body 2.90x2.80mm, Pitch 0.95mm, IPC Medium Density)
pins: 1 SCL (io), 2 GND (power), 3 GND (TEST) (in), 4 VCC (power), 5 INT (out), 6 SDA (io)

## TS3USB221RSER
designator U?
TEXAS INSTRUMENTS         TS3USB221RSER.             USB SWITCH, 480MBPS, 1.1GHZ, QFN-10; Number of Channels: 2; Min Supply Voltage: 2.3V; Max Supply Voltage: 3.6V; On-State Resistance: 6R; Number of Inputs: 4; Operating Supply Voltage: 3V; Nominal Supply Current: 30uA; Turn-Off Delay Time: 12ns; Turn-On Delay Time: 30ns; Supply Type: Single; USB Standard: USB 2.0; High Level Output Current: 64mA; Supplier 1: Digi-Key; Manufacturer: Texas Instruments; Manufacturer Part Number: TS3USB221RSER; RoHS: Yes; Category: USB Interface ICs; Stock 1: 22769; Pricing 1: 1=1.12000, 10=1.00300, 25=0.95200, 100=0.73100, 250=0.64600, 500=0.61200, 1000=0.47600 (USD); Case/Package: QFN; Number of Pins: 10; Weight: 0.000247oz; Contact Plating: Gold; Min Operating Temperature: -40°C; Max Operating Temperature: 85°C; Data Rate: 480Mbps; Packaging: Tape and Reel; Bandwidth: 1.1GHz; Number of Outputs: 2; Package Quantity: 1; Operating Supply Current: 30uA; Number of Ports: 2; Length: 1.5mm; Height: 0.55mm; Width: 2mm; Radiation Hardening: No; Lead Free: Lead Free; REACH SVHC: No SVHC; ComponentLink1URL: https://datasheet.ciiva.com/4924/scds220g-126796-4924322.pdf?src-supplier=Mouser; ComponentLink1Description: https://datasheet.ciiva.com/4924/scds220g-126796-4924322.pdf?src-supplier=Mouser; ComponentLink2URL: https://datasheet.ciiva.com/1505/1805933-1505289.pdf?src-supplier=Element14; ComponentLink2Description: https://datasheet.ciiva.com/1505/1805933-1505289.pdf?src-supplier=Element14; ComponentLink3URL: https://datasheet.ciiva.com/15126/getdatasheetpartid-48047-15126909.pdf?src-supplier=Verical; ComponentLink3Description: https://datasheet.ciiva.com/15126/getdatasheetpartid-48047-15126909.pdf?src-supplier=Verical; ComponentLink4URL: https://datasheet.ciiva.com/41461/001187309-da-01-en-ic-usb-switch-ts3usb221rser-uqfn-10-tid-41461683.pdf?src-supplier=Conrad; ComponentLink4Description: https://datasheet.ciiva.com/41461/001187309-da-01-en-ic-usb-switch-ts3usb221rser-uqfn-10-tid-41461683.pdf?src-supplier=Conrad; ComponentLink5URL: https://datasheet.ciiva.com/1672/ts3usb221-1672054.pdf?src-supplier=Digi-Key; ComponentLink5Description: https://datasheet.ciiva.com/1672/ts3usb221-1672054.pdf?src-supplier=Digi-Key; ComponentLink6URL: https://datasheet.ciiva.com/6636/ts3usb221-6636809.pdf?src-supplier=Digi-Key; ComponentLink6Description: https://datasheet.ciiva.com/6636/ts3usb221-6636809.pdf?src-supplier=Digi-Key; ComponentLink7URL: https://datasheet.ciiva.com/1505/1882068-1505181.pdf?src-supplier=Element14; ComponentLink7Description: https://datasheet.ciiva.com/1505/1882068-1505181.pdf?src-supplier=Element14; ComponentLink8URL: https://datasheet.ciiva.com/1672/ts3usb221-1672053.pdf?src-supplier=Digi-Key; ComponentLink8Description: https://datasheet.ciiva.com/1672/ts3usb221-1672053.pdf?src-supplier=Digi-Key; ComponentLink9URL: https://datasheet.ciiva.com/22694/1882068-22694357.pdf?src-supplier=Element14; ComponentLink9Description: https://datasheet.ciiva.com/22694/1882068-22694357.pdf?src-supplier=Element14
footprint QFN50P150X200X60-10N (QFN, 10-Leads, Body 1.50x2.00mm, Pitch 0.50mm, IPC Medium Density)
pins: 1 D1_P (io), 2 D1_N (io), 3 D2_P (io), 4 D2_N (io), 5 GND (power), 6 OE (in), 7 D_N (io), 8 D_P (io), 9 S (in), 10 VCC (power)